# EAGLE library part JAGPAD_SOCKET (library F030NG)
D-Subminiatur Connector Source: Electronioc Interconnects European Edition 1998
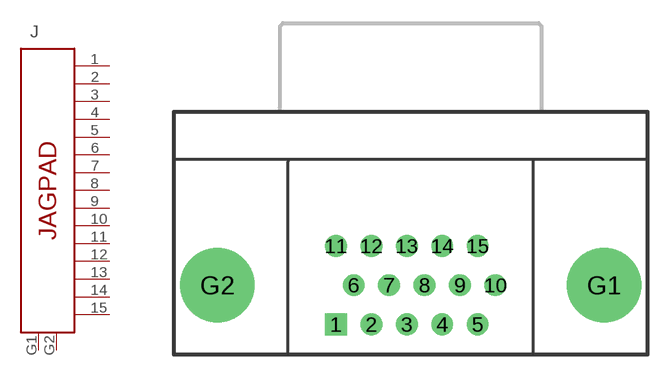
[diagram p14: symbol with the pads of DB15F; footprint DB15F]

Designator prefix J

## JAGPAD_SOCKET  [DB15F]
1  1  pas
2  2  pas
3  3  pas
4  4  pas
5  5  pas
6  6  pas
7  7  pas
8  8  pas
9  9  pas
10  10  pas
11  11  pas
12  12  pas
13  13  pas
14  14  pas
15  15  pas
G1  G1  pas
G2  G2  pas

## Footprint DB15F (pad centres in mm)
THOMAS&BETTS H5M09RA29A
drill 0.9 square: 1 -4.83,-2.54
drill 0.9: 2 -2.54,-2.54; 3 -0.25,-2.54; 4 2.04,-2.54; 5 4.33,-2.54; 6 -3.685,0; 7 -1.395,0; 8 0.895,0; 9 3.185,0; 10 5.475,0; 11 -4.83,2.54; 12 -2.54,2.54; 13 -0.25,2.54; 14 2.04,2.54; 15 4.33,2.54
drill 3.4 pad 4.8: G1 12.5,0; G2 -12.5,0